# Altium footprint library PCB_Potentiostat_revA1.PcbLib: 33 footprints (part 3 of 3)
Each footprint in its own frame and in the unit in brackets; x right, y up, seen from the top. Pads: shape width x height; smd on the part's side, far side on the other; paste and mask are expansions set on the pad; w line width, h text height; cw(c..) or ccw(c..) is an arc to the next point about the centre after c.
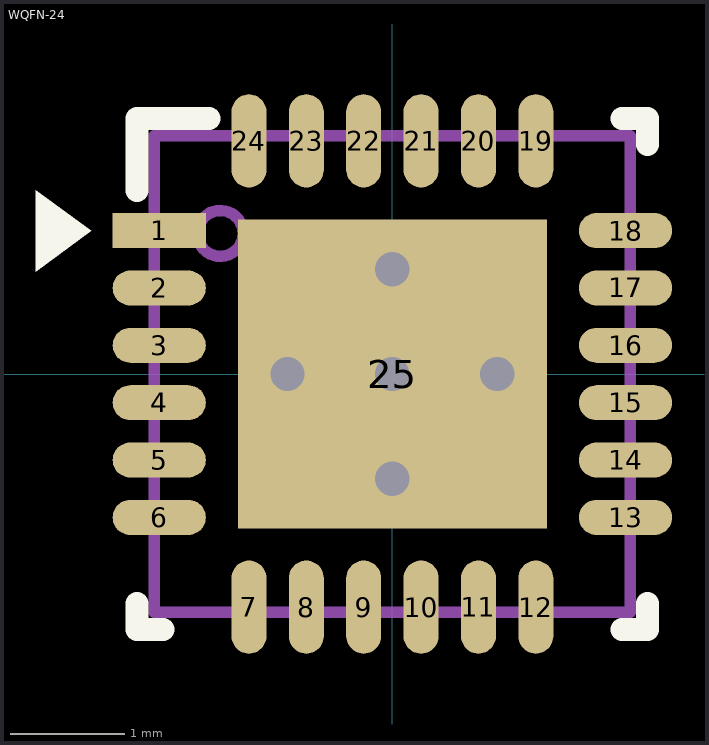
[diagram p2: the footprint, top view; thin cyan lines are the x and y axes]

## WQFN-24 [mil] "QFN, 24-Leads, Body 4x4mm, Pitch 0.5mm, Thermal Pad 2.7x2.7mm,"
height 39.37
pads (25):
  rect 32x12 smd mask+3.15: 1(-80,49.21)
  oval 32x12 smd mask+3.15: 2(-80,29.53) 3(-80,9.84) 4(-80,-9.84) 5(-80,-29.53) 6(-80,-49.21) 13(80,-49.21) 14(80,-29.53) 15(80,-9.84) 16(80,9.84) 17(80,29.53) 18(80,49.21)
  oval 12x32 smd mask+3.15: 7(-49.21,-80) 8(-29.53,-80) 9(-9.84,-80) 10(9.84,-80) 11(29.53,-80) 12(49.21,-80) 19(49.21,80) 20(29.53,80) 21(9.84,80) 22(-9.84,80) 23(-29.53,80) 24(-49.21,80)
  rect 106x106 smd paste-53.15: 25(0,0)
via 0,36 diameter 23.62 hole 11.81
via -36,0 diameter 23.62 hole 11.81
via 0,0 diameter 23.62 hole 11.81
via 36,0 diameter 23.62 hole 11.81
via 0,-36 diameter 23.62 hole 11.81
Top Overlay:
  region: -103.35,49.11 -122.35,63 -122.35,35
  lines w7.87: -87.6,-78.74 -87.6,-87.6 -78.74,-87.6 ; -87.6,62.99 -87.6,87.6 -62.99,87.6 ; 78.74,-87.6 87.6,-87.6 87.6,-78.74 ; 78.74,87.6 87.6,87.6 87.6,78.74
Top Paste:
  rectangle: 3.94,3.94 50.71,50.71
  region: -3.94,50.71 -50.71,50.71 -50.71,3.94 -3.94,3.94
  region: -3.94,-3.94 -50.71,-3.94 -50.71,-50.71 -3.94,-50.71
  rectangle: 3.94,-50.71 50.71,-3.94
Mechanical 13:
  circle w3.94: c-59.06,48.23 r7.87
  lines w3.94: -81.69,-81.69 81.69,-81.69 81.69,81.69 -81.69,81.69 -81.69,-81.69
3D body: height 39.76, standoff 19.68, extent -66.91,40.37 -51.2,56.08
3D body: height 39.37, standoff 0, extent -81.69,-81.69 81.69,81.69